# Altium footprint library Relay.PcbLib: 5 footprints
Each footprint in its own frame and in the unit in brackets; x right, y up, seen from the top. Pads: shape width x height; smd on the part's side, far side on the other; paste and mask are expansions set on the pad; w line width, h text height; cw(c..) or ccw(c..) is an arc to the next point about the centre after c.
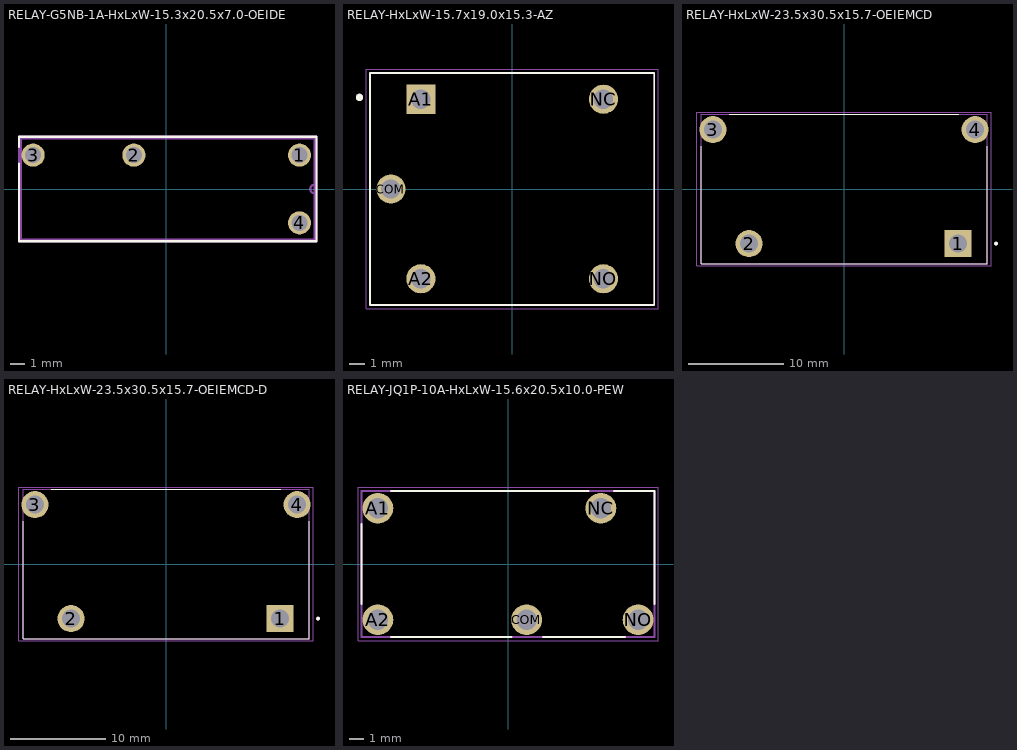
[diagram p0: the footprints below, top view; thin cyan lines are the x and y axes]

## RELAY-G5NB-1A-HxLxW-15.3x20.5x7.0-OEIDE [mm]
pads (4):
  round 1.608 hole 1.1: 1(9.25,2.35) 2(-2.25,2.35) 3(-9.25,2.35) 4(9.25,-2.35)
Top Overlay:
  lines w0.152: -10.227,1.777 -10.227,-3.627 10.427,-3.627 10.427,3.627 -10.227,3.627 -10.227,2.923
Mechanical 1:
  lines w0.152: 10.3,-0.305 cw(c10.3,0) 10.3,0.305 ; -10.1,-3.5 10.3,-3.5 10.3,3.5 -10.1,3.5 -10.1,-3.5
Mechanical 13:
  lines w0.152: 10.3,-0.305 cw(c10.3,0) 10.3,0.305 ; -10.1,-3.5 10.3,-3.5 10.3,3.5 -10.1,3.5 -10.1,-3.5
Mechanical 15:
  lines w0.152: -10.227,-3.627 -10.227,3.627 10.427,3.627 10.427,-3.627 -10.227,-3.627
Mechanical 29:
  lines w0.152: -10.227,-3.627 10.427,-3.627 10.427,3.627 -10.227,3.627 -10.227,-3.627
  text "'.Designator'" at -10.922,-1.778 h5
3D body "step_temp.STEP": height 15.3, standoff -3.4, extent -10.123,-3.556 10.377,3.644

## RELAY-HxLxW-15.7x19.0x15.3-AZ [mm]
pads (5):
  rect 1.95x1.95 hole 1.3: A1(-6.1,6)
  round 1.95 hole 1.3: A2(-6.1,-6) COM(-8.1,0) NC(6.1,6) NO(6.1,-6)
Top Overlay:
  circle w0.3: c-10.2,6.119 r0.1
  lines w0.127: -9.5,-7.75 -9.5,7.75 9.5,7.75 9.5,-7.75 -9.5,-7.75
Mechanical 1:
  lines w0.127: -9.5,-7.75 -9.5,7.75 9.5,7.75 9.5,-7.75 -9.5,-7.75
Mechanical 13:
  lines w0.127: -9.5,-7.75 -9.5,7.75 9.5,7.75 9.5,-7.75 -9.5,-7.75
Mechanical 15:
  lines w0.05: -9.75,-8 -9.75,8 9.75,8 9.75,-8 -9.75,-8
Mechanical 29:
  lines w0.05: -9.75,-8 -9.75,8 9.75,8 9.75,-8 -9.75,-8
  text "'.Designator'" at -7.874,-1.016 h1.52
3D body "AZ943-1CH-12DE.step": height 15.9, standoff -3.51, extent -9.627,-7.747 9.627,7.747

## RELAY-HxLxW-23.5x30.5x15.7-OEIEMCD [mm]
height 33.5
pads (4):
  rect 2.85x2.85 / inner round 2.85 / far side rect 2.85x2.85 hole 1.9: 1(12,-5.75)
  round 2.85 hole 1.9: 2(-10,-5.75) 3(-13.8,6.25) 4(13.8,6.25)
Top Overlay:
  circle w0.2: c16,-5.75 r0.1
  lines w0.127: -15.05,4.505 -15.05,-7.85 15.05,-7.85 15.05,4.505 ; -12.055,7.85 12.055,7.85
Mechanical 1:
  lines w0.127: -15.05,-7.85 -15.05,7.85 15.05,7.85 15.05,-7.85 -15.05,-7.85
Mechanical 13:
  circle w0.2: c16,-5.75 r0.1
  lines w0.127: -15.05,-7.85 -15.05,7.85 15.05,7.85 15.05,-7.85 -15.05,-7.85
Mechanical 15:
  lines w0.05: -15.475,-8.1 15.475,-8.1 15.475,8.1 -15.475,8.1 -15.475,-8.1
Mechanical 29:
  lines w0.05: -15.475,-8.1 15.475,-8.1 15.475,8.1 -15.475,8.1 -15.475,-8.1
3D body "B.step": height 33.5, standoff -3.5, extent -15.25,-8.002 15.25,7.998

## RELAY-HxLxW-23.5x30.5x15.7-OEIEMCD-D [mm]
height 33.5
pads (4):
  rect 2.85x2.85 / inner round 2.85 / far side rect 2.85x2.85 hole 1.9: 1(12,-5.75)
  round 2.85 hole 1.9: 2(-10,-5.75) 3(-13.8,6.25) 4(13.8,6.25)
Top Overlay:
  circle w0.2: c16,-5.75 r0.1
  lines w0.127: -15.05,4.505 -15.05,-7.85 15.05,-7.85 15.05,4.505 ; -12.055,7.85 12.055,7.85
Mechanical 1:
  lines w0.127: -15.05,-7.85 -15.05,7.85 15.05,7.85 15.05,-7.85 -15.05,-7.85
Mechanical 13:
  circle w0.2: c16,-5.75 r0.1
  lines w0.127: -15.05,-7.85 -15.05,7.85 15.05,7.85 15.05,-7.85 -15.05,-7.85
Mechanical 15:
  lines w0.05: -15.475,-8.1 15.475,-8.1 15.475,8.1 -15.475,8.1 -15.475,-8.1
Mechanical 29:
  lines w0.05: -15.475,-8.1 15.475,-8.1 15.475,8.1 -15.475,8.1 -15.475,-8.1
3D body "A.step": height 33.5, standoff -3.5, extent -15.25,-8 15.25,8

## RELAY-JQ1P-10A-HxLxW-15.6x20.5x10.0-PEW [mm]
height 16
pads (5):
  round 2.1 hole 1.4: A1(-8.89,3.81) A2(-8.89,-3.81) COM(1.27,-3.81) NC(6.35,3.81) NO(8.89,-3.81)
Top Overlay:
  lines w0.127: -10,-2.75 -10,2.75 ; -8,-5 0.25,-5 ; -8,5 5.5,5 ; 2.38,-5 8,-5 ; 7.25,5 10,5 10,-2.75
Mechanical 1:
  lines w0.127: -10.002,5 -10,5 ; -10,5 -10,-5 10,-5 10,5 -10,5
Mechanical 13:
  lines w0.127: -10.002,5 -10,5 ; -10,5 -10,-5 10,-5 10,5 -10,5
Mechanical 15:
  lines w0.05: -10.25,-5.25 -10.25,5.25 10.25,5.25 10.25,-5.25 -10.25,-5.25
Mechanical 29:
  lines w0.05: -10.25,-5.25 -10.25,5.25 10.25,5.25 10.25,-5.25 -10.25,-5.25
  text "'.Designator'" at -4.699,-0.508 h2
3D body "RELAY_JQ1_PAN.step": height 16, standoff -0.41, extent -10,-5.004 9.99,5.004